# Altium footprint library PCB_USB.PcbLib: 11 footprints
Each footprint in its own frame and in the unit in brackets; x right, y up, seen from the top. Pads: shape width x height; smd on the part's side, far side on the other; paste and mask are expansions set on the pad; w line width, h text height; cw(c..) or ccw(c..) is an arc to the next point about the centre after c.
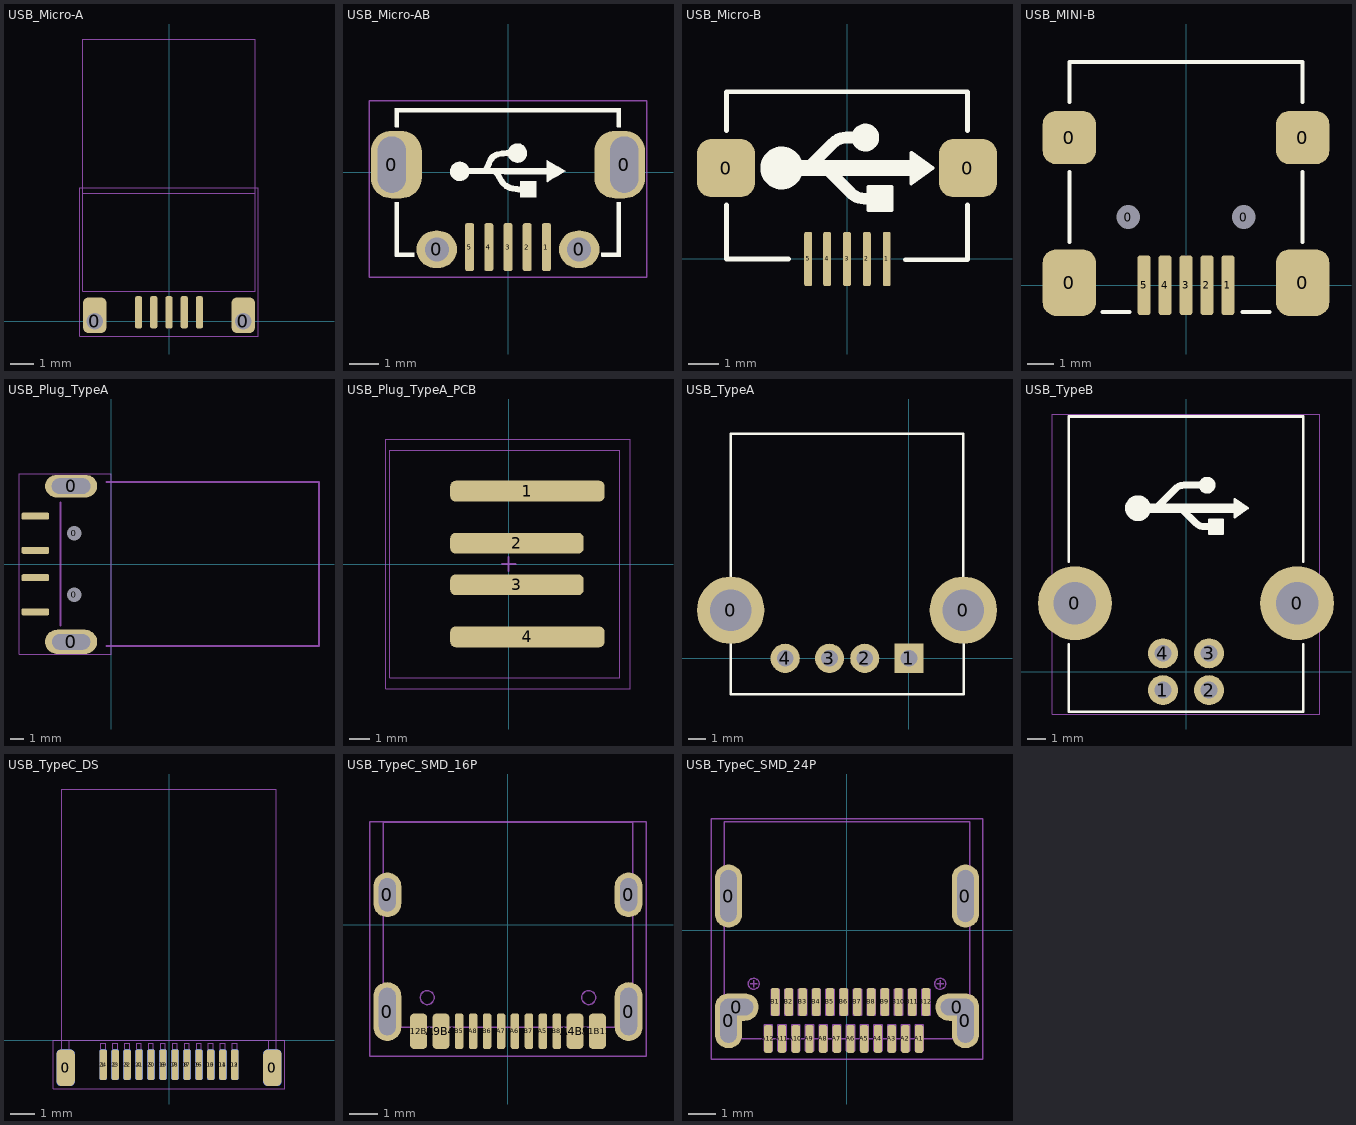
[diagram p0: the footprints below, top view; thin cyan lines are the x and y axes]

## USB_Micro-A [mil]
height 153.54
pads (7):
  rrect50% 40x60 hole 28 copper offset 0,10: 0(-125,0) 0(125,0)
  rrect50% 12x54 smd: 1(-51.18,15) 2(-25.59,15) 3(0,15) 4(25.59,15) 5(51.18,15)
Mechanical 13:
  lines w2: -145,215 145,215 ; -145,50 145,50 145,475 -145,475 -145,50
T-Component:
  lines w2: -150,-25 150,-25 150,225 -150,225 -150,-25
  text ".Designator" at -90,80 h100
3D body "UJ2-MIBH-4-SMT.stp": height 108.27, standoff -24.02, extent -147.64,-15 147.64,449.57

## USB_Micro-AB [mil]
height 153.54
pads (9):
  rrect80% 68x90 hole 37 slot 75 at 90 deg copper offset 6,0 mask+0: 0(-155,10)
  oval 54x50 hole 32 mask+0: 0(-95,-103) 0(95,-103)
  rrect80% 68x90 hole 37 slot 75 at 90 deg copper offset -6,0 mask+0: 0(155,10)
  rrect50% 12x64 smd: 1(51.18,-100) 2(25.59,-100) 3(0,-100) 4(-25.59,-100) 5(-51.18,-100)
Top Overlay:
  drawing of 24 lines, arcs and shapes, not listed
T-Component:
  lines w2: -185,-140 -185,95 185,95 185,-140 -185,-140
  text ".Designator" at -90,-45 h100
3D body "User Library-MicroUSB-B_Molex_105017-0001.STEP": height 108.07, standoff -21.85, extent -161.42,-109.33 161.42,104.45

## USB_Micro-B [mil]
height 153.54
pads (7):
  rrect50% 74.8x74.8 smd: 0(-155.51,116.84) 0(155.51,116.84)
  rrect50% 10x70 smd: 1(51.18,0) 2(25.59,0) 3(0,0) 4(-25.59,0) 5(-50,0)
Top Overlay:
  circle w35: c-84.07,117 r10
  circle w20: c23.56,156.21 r7.87
  region: 110.18,117 82.62,97.31 82.62,136.69
  region: 57.03,62.87 27.5,62.87 27.5,92.39 57.03,92.39
  lines w5: 27.5,62.87 27.5,92.39 57.03,92.39 57.03,62.87 27.5,62.87 ; 82.62,97.31 110.18,117 82.62,136.69 82.62,97.31
  lines w6: -155,69.8 -155,0 -75,0 ; -155,164.84 -155,215 155,215 155,164.84 ; 75,-1 155,-1 155,69.8
  lines w15: -52.85,114.46 -18.48,148.83 cw(c-0.65,131) -0.65,156.21 22.5,156.21 ; -24.7,114.54 4.83,85.01 ccw(c22.66,102.84) 22.66,77.63 42.5,77.63
  lines w20: -82.5,117 92.5,117
3D body "Micro USB.STP": height 106.7, standoff -9.04, extent -156.58,4.51 157.59,218.29

## USB_MINI-B [mil]
height 153.54
pads (11):
  rrect50% 80x100 smd: 0(-175.2,3.94) 0(175.19,3.94)
  rrect50% 80x80 smd: 0(-175.2,221.69) 0(175.19,221.69)
  round 23.62 hole 35.43 unplated: 0(-86.61,102.36) 0(86.61,102.36)
  rrect50% 20x90 smd: 1(62.99,0) 2(31.5,0) 3(0,0) 4(-31.5,0) 5(-62.99,0)
Top Overlay:
  lines w6: -175,65 -175,170 ; -175,275 -175,335 175,335 175,275 ; -125,-40 -85,-40 ; 85,-40 125,-40 ; 175,65 175,170
3D body "User Library-USB_mini_B.STEP": height 155.51, standoff -39.37, extent -210.63,-27.56 210.63,334.64

## USB_Plug_TypeA [mil]
height 177.17
pads (8):
  oval 150x70 hole 45 slot 110 at 0 deg: 0(-115,-224)
  oval 150x65 hole 45 slot 111 at 0 deg: 0(-115,224)
  round 32 hole 42: 0(-106.3,-88.58) 0(-106.3,88.58)
  rrect50% 80x20 smd: 1(-218,137.8) 2(-218,39.37) 3(-218,-39.37) 4(-218,-137.8)
Mechanical 13:
  lines w6: -145.67,-176.18 -145.67,176.18 ; -12.99,-236.22 598.43,-236.22 598.43,236.22 -12.99,236.22
T-Component:
  lines w2: -265,-260 0,-260 0,260 -265,260 -265,-260
  text ".Designator" at -220,-25 h100
3D body "SW3dPS-USB-Male Port.STEP": height 70, standoff -117.5, extent -145.67,-236.37 576.08,236.37

## USB_Plug_TypeA_PCB [mm]
height 3.9
pads (4):
  rrect50% 7.41x1 smd: 1(0.897,3.5) 4(0.897,-3.5)
  rrect50% 6.41x1 smd: 2(0.397,1) 3(0.397,-1)
Mechanical 13:
  lines w0.051: -5.908,-6 5.842,-6 5.842,6 -5.908,6 -5.908,-6 ; -5.715,-5.461 -5.715,5.461 5.334,5.461 5.334,-5.461 -5.715,-5.461
  lines w0.1: -0.33,0 0.33,0 ; 0,-0.33 0,0.33

## USB_TypeA [mil]
pads (6):
  round 150 hole 93: 0(-397,107) 0(121,107)
  rect 65x65 hole 37: 1(0,0)
  round 65 hole 37: 2(-98.5,0) 3(-177,0) 4(-275.6,0)
Top Overlay:
  lines w6: 121,107 121,500 -397,500 -397,107 -397,-80 122,-80 122,107
3D body "User Library-USB-A-01.step": height 274.23, standoff -164.75, extent -449.02,-45 173.03,494.37

## USB_TypeB [mil]
height 437.01
pads (6):
  round 157.48 hole 90.55 mask+0: 0(-237.01,146.28) 0(237.01,146.28)
  round 64 hole 36 mask+1: 1(-49.21,-39.16) 2(49.21,-39.16) 3(49.21,39.58) 4(-49.21,39.58)
Top Overlay:
  circle w35: c-102.57,349 r10
  circle w20: c45.06,398.21 r7.87
  region: 131.68,349 104.12,329.31 104.12,368.69
  region: 78.53,294.87 49,294.87 49,324.39 78.53,324.39
  lines w5: 49,294.87 49,324.39 78.53,324.39 78.53,294.87 49,294.87 ; 104.12,329.31 131.68,349 104.12,368.69 104.12,329.31
  lines w6: -250,58.86 -250,-85 250,-85 250,58.86 ; -250,235 -250,545 250,545 250,235
  lines w15: -61.35,351.46 -21.98,390.83 cw(c-4.15,373) -4.15,398.21 45.06,398.21 ; -8.2,346.54 21.33,317.01 ccw(c39.16,334.84) 39.16,309.63 49,309.63
  lines w20: -82.89,349 104.12,349
T-Component:
  lines w2: -285,-90 285,-90 285,550 -285,550 -285,-90
3D body "c-0292304-01-b-3d.stp": height 452.76, standoff -154.56, extent -283.24,-67.11 283.24,551

## USB_TypeC_DS [mil]
height 437.01
pads (28):
  rrect50% 30x60 smd: 0(-170,-45) 0(170,-45)
  rrect50% 30x60 smd far side: 0(-170,-45) 0(170,-45)
  rrect50% 12x50 smd: 1(-108.27,-40) 2(-88.58,-40) 3(-68.9,-40) 4(-49.21,-40) 5(-29.53,-40) 6(-9.84,-40) 7(9.84,-40) 8(29.53,-40) 9(49.21,-40) 10(68.9,-40) 11(88.58,-40) 12(108.27,-40)
  rrect50% 12x50 smd far side: 13(108.27,-40) 14(88.58,-40) 15(68.9,-40) 16(49.21,-40) 17(29.53,-40) 18(9.84,-40) 19(-9.84,-40) 20(-29.53,-40) 21(-49.21,-40) 22(-68.9,-40) 23(-88.58,-40) 24(-108.27,-40)
Mechanical 13:
  lines w2: -175.98,0 175.98,0 ; -175.98,0 -175.98,413.39 175.98,413.39 175.98,0 ; -175.98,0 -164.17,0 -164.17,-64.96 -175.98,-64.96 -175.98,0 ; 175.98,0 175.98,-64.96 164.17,-64.96 164.17,0 175.98,0 ; -112.2,-51.3 -104.33,-51.3 -104.33,-4.84 -112.2,-4.84 -112.2,-51.3 ; -92.52,-51.3 -92.52,-4.84 -84.65,-4.84 -84.65,-51.3 -92.52,-51.3 ; -72.83,-51.3 -72.83,-4.84 -64.96,-4.84 -64.96,-51.3 -72.83,-51.3 ; -53.15,-51.3 -45.28,-51.3 -45.28,-4.84 -53.15,-4.84 -53.15,-51.3 ; -33.46,-51.3 -25.59,-51.3 -25.59,-4.84 -33.46,-4.84 -33.46,-51.3 ; -13.78,-51.3 -13.78,-4.84 -5.91,-4.84 -5.91,-51.3 -13.78,-51.3 ; 5.91,-51.3 13.78,-51.3 13.78,-4.84 5.91,-4.84 5.91,-51.3 ; 25.59,-51.3 25.59,-4.84 33.46,-4.84 33.46,-51.3 25.59,-51.3 ; 45.28,-51.3 53.15,-51.3 53.15,-4.84 45.28,-4.84 45.28,-51.3 ; 64.96,-51.3 64.96,-4.84 72.83,-4.84 72.83,-51.3 64.96,-51.3 ; 84.65,-51.3 84.65,-4.84 92.52,-4.84 92.52,-51.3 84.65,-51.3 ; 104.33,-51.3 112.2,-51.3 112.2,-4.84 104.33,-4.84 104.33,-51.3
T-Component:
  lines w2: -190,-80 -190,0 190,0 190,-80 -190,-80
  text ".Designator" at -90,-70 h100
3D body: height 10, standoff 0, extent -220,383.7 -220,383.7

## USB_TypeC_SMD_16P [mm]
height 11.1
pads (16):
  oval 1x1.6 hole 0.6 slot 1.2 at 90 deg: 0(-4.32,1.075) 0(4.32,1.075)
  oval 1x2.1 hole 0.6 slot 1.7 at 90 deg: 0(-4.32,-3.105) 0(4.32,-3.105)
  rrect50% 0.61x1.27 smd: A1B12(3.2,-3.81) A4B9(2.4,-3.81) A9B4(-2.4,-3.81) A12B1(-3.2,-3.81)
  rrect50% 0.305x1.27 smd: A5(1.25,-3.81) A6(0.25,-3.81) A7(-0.25,-3.81) A8(-1.25,-3.81) B5(-1.75,-3.81) B6(-0.75,-3.81) B7(0.75,-3.81) B8(1.75,-3.81)
Mechanical 13:
  circle w0.051: c2.89,-2.605 r0.25
  circle w0.051: c-2.89,-2.605 r0.25
  lines w0.051: -4.47,-3.675 -4.47,3.675 4.47,3.675 4.47,-3.675 -4.47,-3.675 ; -4.47,-3.655 -4.17,-3.655 -4.17,-2.555 -4.47,-2.555 -4.47,-3.655 ; -4.47,0.675 -4.47,1.475 -4.17,1.475 -4.17,0.675 -4.47,0.675 ; -3.425,-3.925 -3.425,-3.425 -3.225,-3.425 -3.225,-3.925 -3.425,-3.925 ; -3.175,-3.925 -2.975,-3.925 -2.975,-3.425 -3.175,-3.425 -3.175,-3.925 ; -2.625,-3.925 -2.625,-3.425 -2.425,-3.425 -2.425,-3.925 -2.625,-3.925 ; -2.375,-3.925 -2.175,-3.925 -2.175,-3.425 -2.375,-3.425 -2.375,-3.925 ; -1.85,-3.925 -1.65,-3.925 -1.65,-3.425 -1.85,-3.425 -1.85,-3.925 ; -1.35,-3.925 -1.35,-3.425 -1.15,-3.425 -1.15,-3.925 -1.35,-3.925 ; -0.85,-3.925 -0.85,-3.425 -0.65,-3.425 -0.65,-3.925 -0.85,-3.925 ; -0.35,-3.925 -0.15,-3.925 -0.15,-3.425 -0.35,-3.425 -0.35,-3.925 ; 0.15,-3.925 0.15,-3.425 0.35,-3.425 0.35,-3.925 0.15,-3.925 ; 0.65,-3.925 0.85,-3.925 0.85,-3.425 0.65,-3.425 0.65,-3.925 ; 1.15,-3.925 1.15,-3.425 1.35,-3.425 1.35,-3.925 1.15,-3.925 ; 1.65,-3.925 1.85,-3.925 1.85,-3.425 1.65,-3.425 1.65,-3.925 ; 2.175,-3.925 2.175,-3.425 2.375,-3.425 2.375,-3.925 2.175,-3.925 ; 2.425,-3.925 2.625,-3.925 2.625,-3.425 2.425,-3.425 2.425,-3.925 ; 2.975,-3.925 2.975,-3.425 3.175,-3.425 3.175,-3.925 2.975,-3.925 ; 3.225,-3.925 3.425,-3.925 3.425,-3.425 3.225,-3.425 3.225,-3.925 ; 4.17,-3.655 4.17,-2.555 4.47,-2.555 4.47,-3.655 4.17,-3.655 ; 4.17,0.675 4.47,0.675 4.47,1.475 4.17,1.475 4.17,0.675
T-Component:
  lines w0.051: -4.953,-4.699 4.953,-4.699 4.953,3.683 -4.953,3.683 -4.953,-4.699
  text ".Designator" at -2.286,-0.635 h2.54
3D body "uj31-ch-3-smt-tr.stp": height 3.21, standoff -0.85, extent -4.48,-4.65 4.48,4.7

## USB_TypeC_SMD_24P [mil]
height 437.01
pads (30):
  oval 39.37x78.74 hole 23.62 slot 62.99 at 90 deg: 0(-170.08,-129.92) 0(170.08,-129.92)
  oval 39.37x90.55 hole 23.62 slot 74.8 at 90 deg: 0(-170.08,49.21) 0(170.08,49.21)
  oval 62.99x39.37 hole 23.62 slot 47.24 at 0 deg: 0(-158.27,-110.24) 0(158.27,-110.24)
  rrect50% 12x40 smd: A1(103.54,-156) A2(83.86,-156) A3(64.17,-156) A4(44.49,-156) A5(24.8,-156) A6(5.12,-156) A7(-14.57,-156) A8(-34.25,-156) A9(-53.94,-156) A10(-73.62,-156) A11(-93.31,-156) A12(-112.99,-156) B1(-103.15,-102.87) B2(-83.46,-102.87) B3(-63.78,-102.87) B4(-44.09,-102.87) B5(-24.41,-102.87) B6(-4.72,-102.87) B7(14.96,-102.87) B8(34.65,-102.87) B9(54.33,-102.87) B10(74.02,-102.87) B11(93.7,-102.87) B12(113.39,-102.87)
Mechanical 13:
  drawing of 190 lines, arcs and shapes, not listed
T-Component:
  lines w2: -195,-185 -195,160 195,160 195,-185 -195,-185
  text ".Designator" at -90.55,-27.56 h100
3D body "uj31-ch-3-smt-tr.stp": height 126.2, standoff -33.64, extent -176.38,-198.81 176.38,169.3